# Altium schematic symbol library con-weidmueller-sl35.SCHLIB: 184 symbols
Pins are listed as number, name and electrical type; pins without a type are passive.

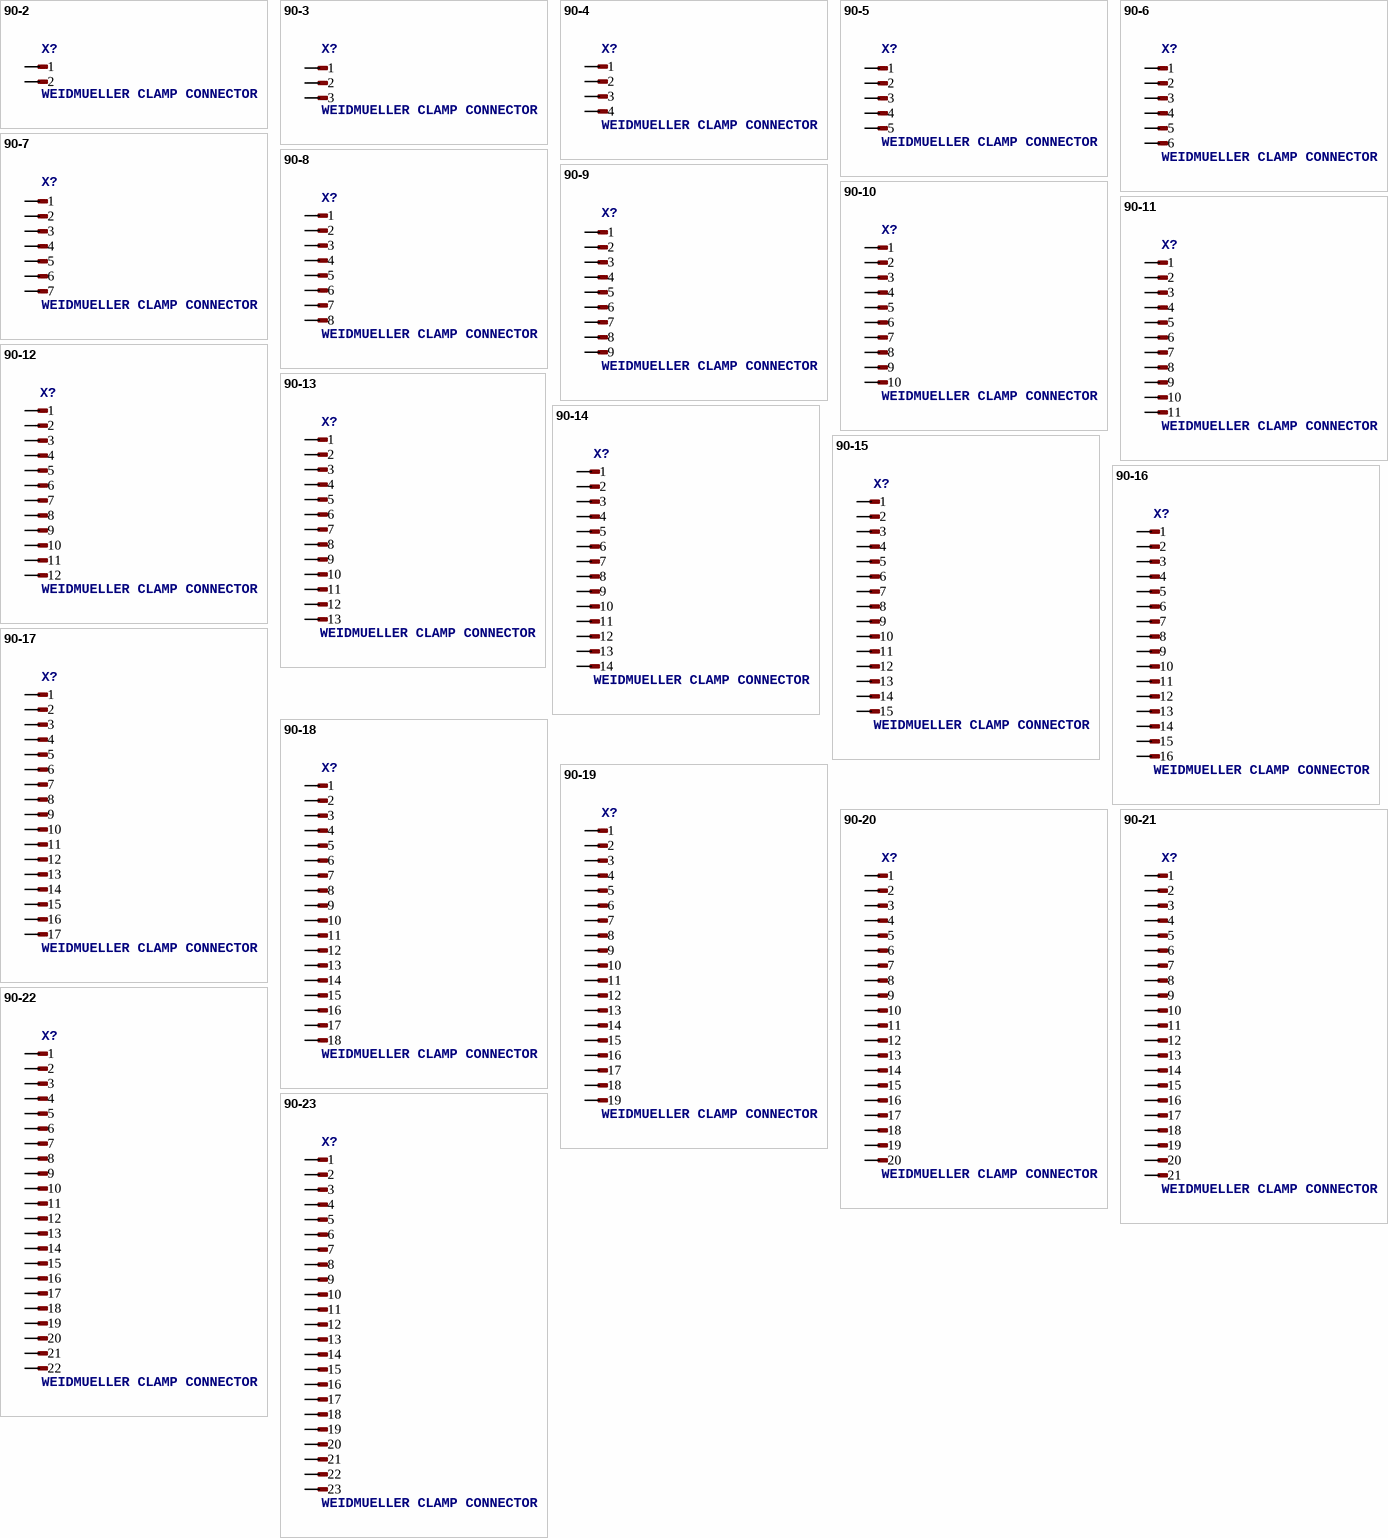
[diagram p0: symbols 90-2 to 90-23]

## 90-2
designator X?, comment WEIDMUELLER CLAMP CONNECTOR
OC_FARNELL: unknown; OC_NEWARK: unknown
footprint 90-2
pins: 1, 2

## 90-3
designator X?, comment WEIDMUELLER CLAMP CONNECTOR
OC_FARNELL: unknown; OC_NEWARK: unknown
footprint 90-3
pins: 1, 2, 3

## 90-4
designator X?, comment WEIDMUELLER CLAMP CONNECTOR
OC_FARNELL: unknown; OC_NEWARK: unknown
footprint 90-4
pins: 1, 2, 3, 4

## 90-5
designator X?, comment WEIDMUELLER CLAMP CONNECTOR
OC_FARNELL: unknown; OC_NEWARK: unknown
footprint 90-5
pins: 1, 2, 3, 4, 5

## 90-6
designator X?, comment WEIDMUELLER CLAMP CONNECTOR
OC_FARNELL: unknown; OC_NEWARK: unknown
footprint 90-6
pins: 1, 2, 3, 4, 5, 6

## 90-7
designator X?, comment WEIDMUELLER CLAMP CONNECTOR
OC_FARNELL: unknown; OC_NEWARK: unknown
footprint 90-7
pins: 1, 2, 3, 4, 5, 6, 7

## 90-8
designator X?, comment WEIDMUELLER CLAMP CONNECTOR
OC_FARNELL: unknown; OC_NEWARK: unknown
footprint 90-8
pins: 1, 2, 3, 4, 5, 6, 7, 8

## 90-9
designator X?, comment WEIDMUELLER CLAMP CONNECTOR
OC_FARNELL: unknown; OC_NEWARK: unknown
footprint 90-9
pins: 1, 2, 3, 4, 5, 6, 7, 8, 9

## 90-10
designator X?, comment WEIDMUELLER CLAMP CONNECTOR
OC_FARNELL: unknown; OC_NEWARK: unknown
footprint 90-10
pins: 1, 2, 3, 4, 5, 6, 7, 8, 9, 10

## 90-11
designator X?, comment WEIDMUELLER CLAMP CONNECTOR
OC_FARNELL: unknown; OC_NEWARK: unknown
footprint 90-11
pins: 1, 2, 3, 4, 5, 6, 7, 8, 9, 10, 11

## 90-12
designator X?, comment WEIDMUELLER CLAMP CONNECTOR
OC_FARNELL: unknown; OC_NEWARK: unknown
footprint 90-12
pins: 1, 2, 3, 4, 5, 6, 7, 8, 9, 10, 11, 12

## 90-13
designator X?, comment WEIDMUELLER CLAMP CONNECTOR
OC_FARNELL: unknown; OC_NEWARK: unknown
footprint 90-13
pins: 1, 2, 3, 4, 5, 6, 7, 8, 9, 10, 11, 12, 13

## 90-14
designator X?, comment WEIDMUELLER CLAMP CONNECTOR
OC_FARNELL: unknown; OC_NEWARK: unknown
footprint 90-14
pins: 1, 2, 3, 4, 5, 6, 7, 8, 9, 10, 11, 12, 13, 14

## 90-15
designator X?, comment WEIDMUELLER CLAMP CONNECTOR
OC_FARNELL: unknown; OC_NEWARK: unknown
footprint 90-15
pins: 1, 2, 3, 4, 5, 6, 7, 8, 9, 10, 11, 12, 13, 14, 15

## 90-16
designator X?, comment WEIDMUELLER CLAMP CONNECTOR
OC_FARNELL: unknown; OC_NEWARK: unknown
footprint 90-16
pins: 1, 2, 3, 4, 5, 6, 7, 8, 9, 10, 11, 12, 13, 14, 15, 16

## 90-17
designator X?, comment WEIDMUELLER CLAMP CONNECTOR
OC_FARNELL: unknown; OC_NEWARK: unknown
footprint 90-17
pins: 1, 2, 3, 4, 5, 6, 7, 8, 9, 10, 11, 12, 13, 14, 15, 16, 17

## 90-18
designator X?, comment WEIDMUELLER CLAMP CONNECTOR
OC_FARNELL: unknown; OC_NEWARK: unknown
footprint 90-18
pins: 1, 2, 3, 4, 5, 6, 7, 8, 9, 10, 11, 12, 13, 14, 15, 16, 17, 18

## 90-19
designator X?, comment WEIDMUELLER CLAMP CONNECTOR
OC_FARNELL: unknown; OC_NEWARK: unknown
footprint 90-19
pins: 1, 2, 3, 4, 5, 6, 7, 8, 9, 10, 11, 12, 13, 14, 15, 16, 17, 18, 19

## 90-20
designator X?, comment WEIDMUELLER CLAMP CONNECTOR
OC_FARNELL: unknown; OC_NEWARK: unknown
footprint 90-20
pins: 1, 2, 3, 4, 5, 6, 7, 8, 9, 10, 11, 12, 13, 14, 15, 16, 17, 18, 19, 20

## 90-21
designator X?, comment WEIDMUELLER CLAMP CONNECTOR
OC_FARNELL: unknown; OC_NEWARK: unknown
footprint 90-21
pins: 1, 2, 3, 4, 5, 6, 7, 8, 9, 10, 11, 12, 13, 14, 15, 16, 17, 18, 19, 20, 21

## 90-22
designator X?, comment WEIDMUELLER CLAMP CONNECTOR
OC_FARNELL: unknown; OC_NEWARK: unknown
footprint 90-22
pins: 1, 2, 3, 4, 5, 6, 7, 8, 9, 10, 11, 12, 13, 14, 15, 16, 17, 18, 19, 20, 21, 22

## 90-23
designator X?, comment WEIDMUELLER CLAMP CONNECTOR
OC_FARNELL: unknown; OC_NEWARK: unknown
footprint 90-23
pins: 1, 2, 3, 4, 5, 6, 7, 8, 9, 10, 11, 12, 13, 14, 15, 16, 17, 18, 19, 20, 21, 22, 23

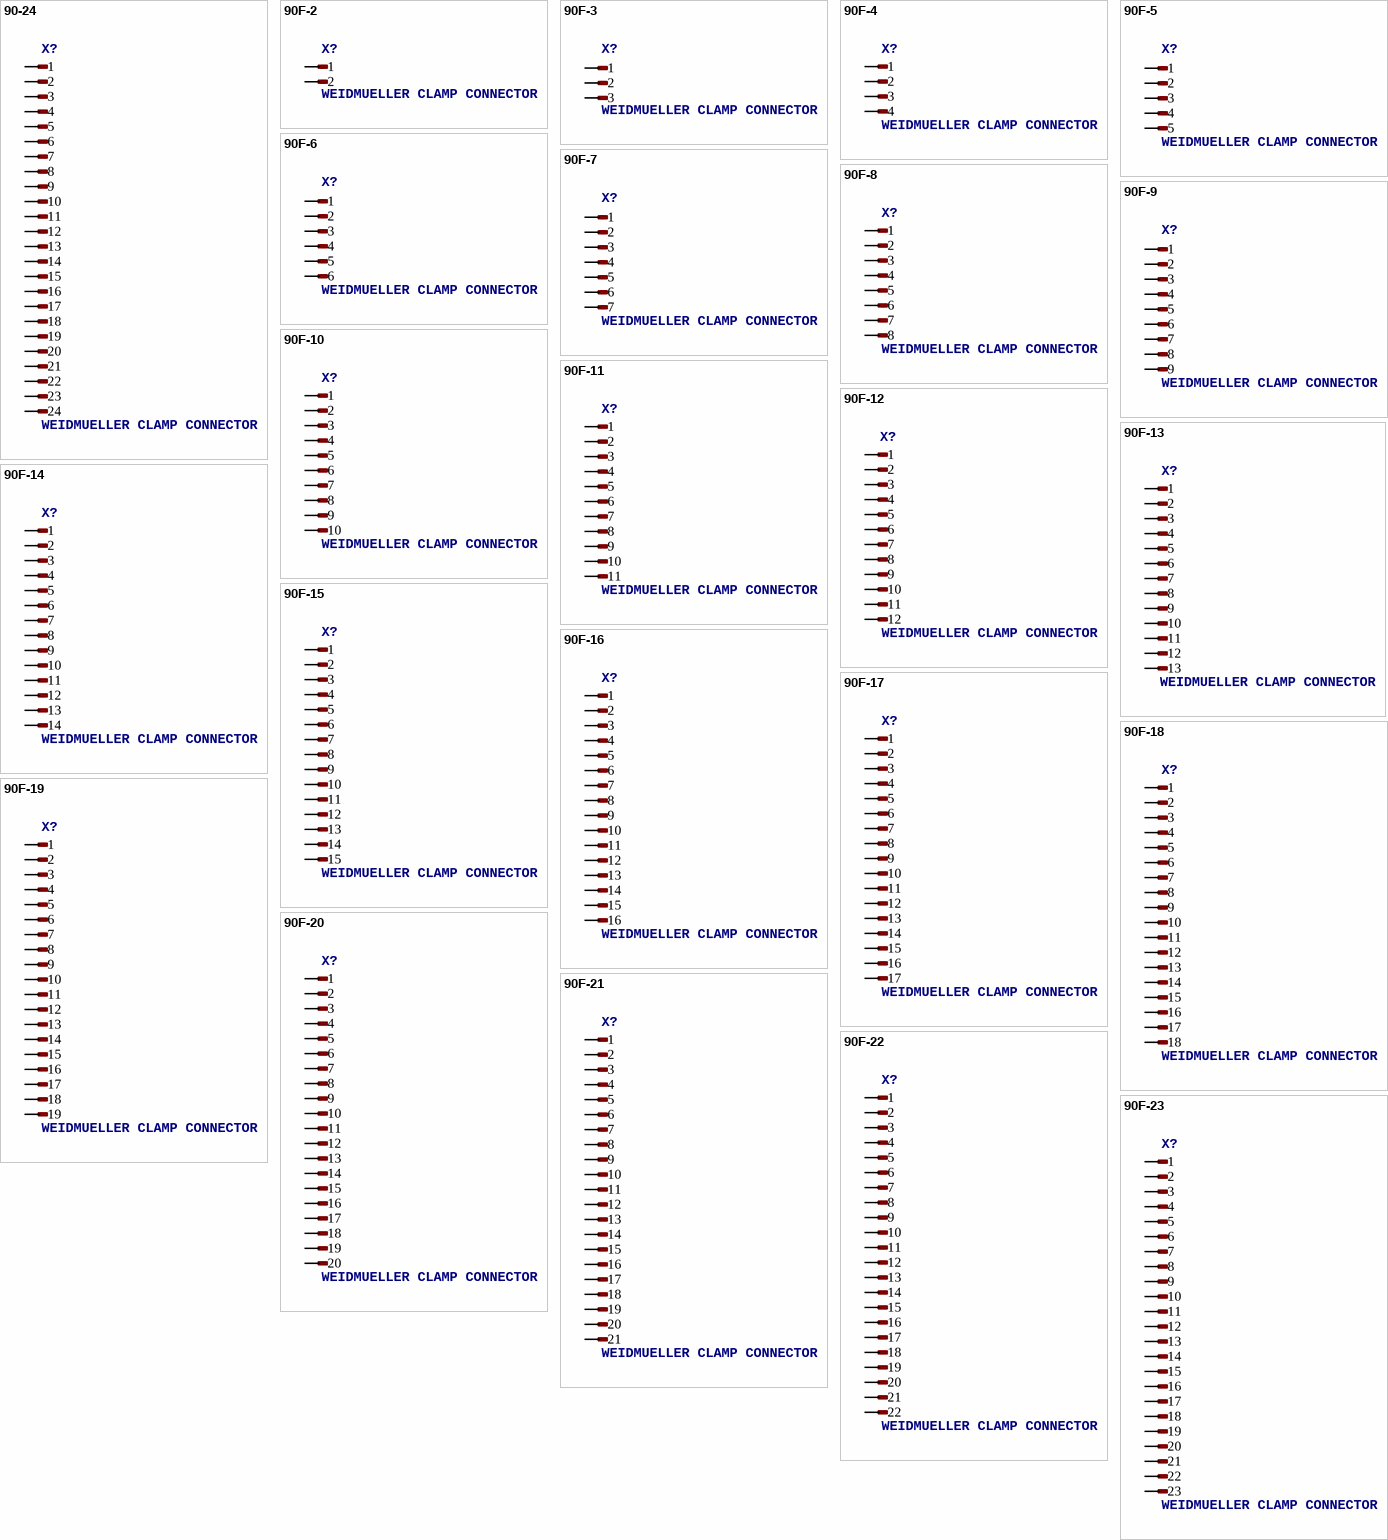
[diagram p1: symbols 90-24 to 90F-23]

## 90-24
designator X?, comment WEIDMUELLER CLAMP CONNECTOR
OC_FARNELL: unknown; OC_NEWARK: unknown
footprint 90-24
pins: 1, 2, 3, 4, 5, 6, 7, 8, 9, 10, 11, 12, 13, 14, 15, 16, 17, 18, 19, 20, 21, 22, 23, 24

## 90F-2
designator X?, comment WEIDMUELLER CLAMP CONNECTOR
OC_FARNELL: unknown; OC_NEWARK: unknown
footprint 90F-2
pins: 1, 2

## 90F-3
designator X?, comment WEIDMUELLER CLAMP CONNECTOR
OC_FARNELL: unknown; OC_NEWARK: unknown
footprint 90F-3
pins: 1, 2, 3

## 90F-4
designator X?, comment WEIDMUELLER CLAMP CONNECTOR
OC_FARNELL: unknown; OC_NEWARK: unknown
footprint 90F-4
pins: 1, 2, 3, 4

## 90F-5
designator X?, comment WEIDMUELLER CLAMP CONNECTOR
OC_FARNELL: unknown; OC_NEWARK: unknown
footprint 90F-5
pins: 1, 2, 3, 4, 5

## 90F-6
designator X?, comment WEIDMUELLER CLAMP CONNECTOR
OC_FARNELL: unknown; OC_NEWARK: unknown
footprint 90F-6
pins: 1, 2, 3, 4, 5, 6

## 90F-7
designator X?, comment WEIDMUELLER CLAMP CONNECTOR
OC_FARNELL: unknown; OC_NEWARK: unknown
footprint 90F-7
pins: 1, 2, 3, 4, 5, 6, 7

## 90F-8
designator X?, comment WEIDMUELLER CLAMP CONNECTOR
OC_FARNELL: unknown; OC_NEWARK: unknown
footprint 90F-8
pins: 1, 2, 3, 4, 5, 6, 7, 8

## 90F-9
designator X?, comment WEIDMUELLER CLAMP CONNECTOR
OC_FARNELL: unknown; OC_NEWARK: unknown
footprint 90F-9
pins: 1, 2, 3, 4, 5, 6, 7, 8, 9

## 90F-10
designator X?, comment WEIDMUELLER CLAMP CONNECTOR
OC_FARNELL: unknown; OC_NEWARK: unknown
footprint 90F-10
pins: 1, 2, 3, 4, 5, 6, 7, 8, 9, 10

## 90F-11
designator X?, comment WEIDMUELLER CLAMP CONNECTOR
OC_FARNELL: unknown; OC_NEWARK: unknown
footprint 90F-11
pins: 1, 2, 3, 4, 5, 6, 7, 8, 9, 10, 11

## 90F-12
designator X?, comment WEIDMUELLER CLAMP CONNECTOR
OC_FARNELL: unknown; OC_NEWARK: unknown
footprint 90F-12
pins: 1, 2, 3, 4, 5, 6, 7, 8, 9, 10, 11, 12

## 90F-13
designator X?, comment WEIDMUELLER CLAMP CONNECTOR
OC_FARNELL: unknown; OC_NEWARK: unknown
footprint 90F-13
pins: 1, 2, 3, 4, 5, 6, 7, 8, 9, 10, 11, 12, 13

## 90F-14
designator X?, comment WEIDMUELLER CLAMP CONNECTOR
OC_FARNELL: unknown; OC_NEWARK: unknown
footprint 90F-14
pins: 1, 2, 3, 4, 5, 6, 7, 8, 9, 10, 11, 12, 13, 14

## 90F-15
designator X?, comment WEIDMUELLER CLAMP CONNECTOR
OC_FARNELL: unknown; OC_NEWARK: unknown
footprint 90F-15
pins: 1, 2, 3, 4, 5, 6, 7, 8, 9, 10, 11, 12, 13, 14, 15

## 90F-16
designator X?, comment WEIDMUELLER CLAMP CONNECTOR
OC_FARNELL: unknown; OC_NEWARK: unknown
footprint 90F-16
pins: 1, 2, 3, 4, 5, 6, 7, 8, 9, 10, 11, 12, 13, 14, 15, 16

## 90F-17
designator X?, comment WEIDMUELLER CLAMP CONNECTOR
OC_FARNELL: unknown; OC_NEWARK: unknown
footprint 90F-17
pins: 1, 2, 3, 4, 5, 6, 7, 8, 9, 10, 11, 12, 13, 14, 15, 16, 17

## 90F-18
designator X?, comment WEIDMUELLER CLAMP CONNECTOR
OC_FARNELL: unknown; OC_NEWARK: unknown
footprint 90F-18
pins: 1, 2, 3, 4, 5, 6, 7, 8, 9, 10, 11, 12, 13, 14, 15, 16, 17, 18

## 90F-19
designator X?, comment WEIDMUELLER CLAMP CONNECTOR
OC_FARNELL: unknown; OC_NEWARK: unknown
footprint 90F-19
pins: 1, 2, 3, 4, 5, 6, 7, 8, 9, 10, 11, 12, 13, 14, 15, 16, 17, 18, 19

## 90F-20
designator X?, comment WEIDMUELLER CLAMP CONNECTOR
OC_FARNELL: unknown; OC_NEWARK: unknown
footprint 90F-20
pins: 1, 2, 3, 4, 5, 6, 7, 8, 9, 10, 11, 12, 13, 14, 15, 16, 17, 18, 19, 20

## 90F-21
designator X?, comment WEIDMUELLER CLAMP CONNECTOR
OC_FARNELL: unknown; OC_NEWARK: unknown
footprint 90F-21
pins: 1, 2, 3, 4, 5, 6, 7, 8, 9, 10, 11, 12, 13, 14, 15, 16, 17, 18, 19, 20, 21

## 90F-22
designator X?, comment WEIDMUELLER CLAMP CONNECTOR
OC_FARNELL: unknown; OC_NEWARK: unknown
footprint 90F-22
pins: 1, 2, 3, 4, 5, 6, 7, 8, 9, 10, 11, 12, 13, 14, 15, 16, 17, 18, 19, 20, 21, 22

## 90F-23
designator X?, comment WEIDMUELLER CLAMP CONNECTOR
OC_FARNELL: unknown; OC_NEWARK: unknown
footprint 90F-23
pins: 1, 2, 3, 4, 5, 6, 7, 8, 9, 10, 11, 12, 13, 14, 15, 16, 17, 18, 19, 20, 21, 22, 23

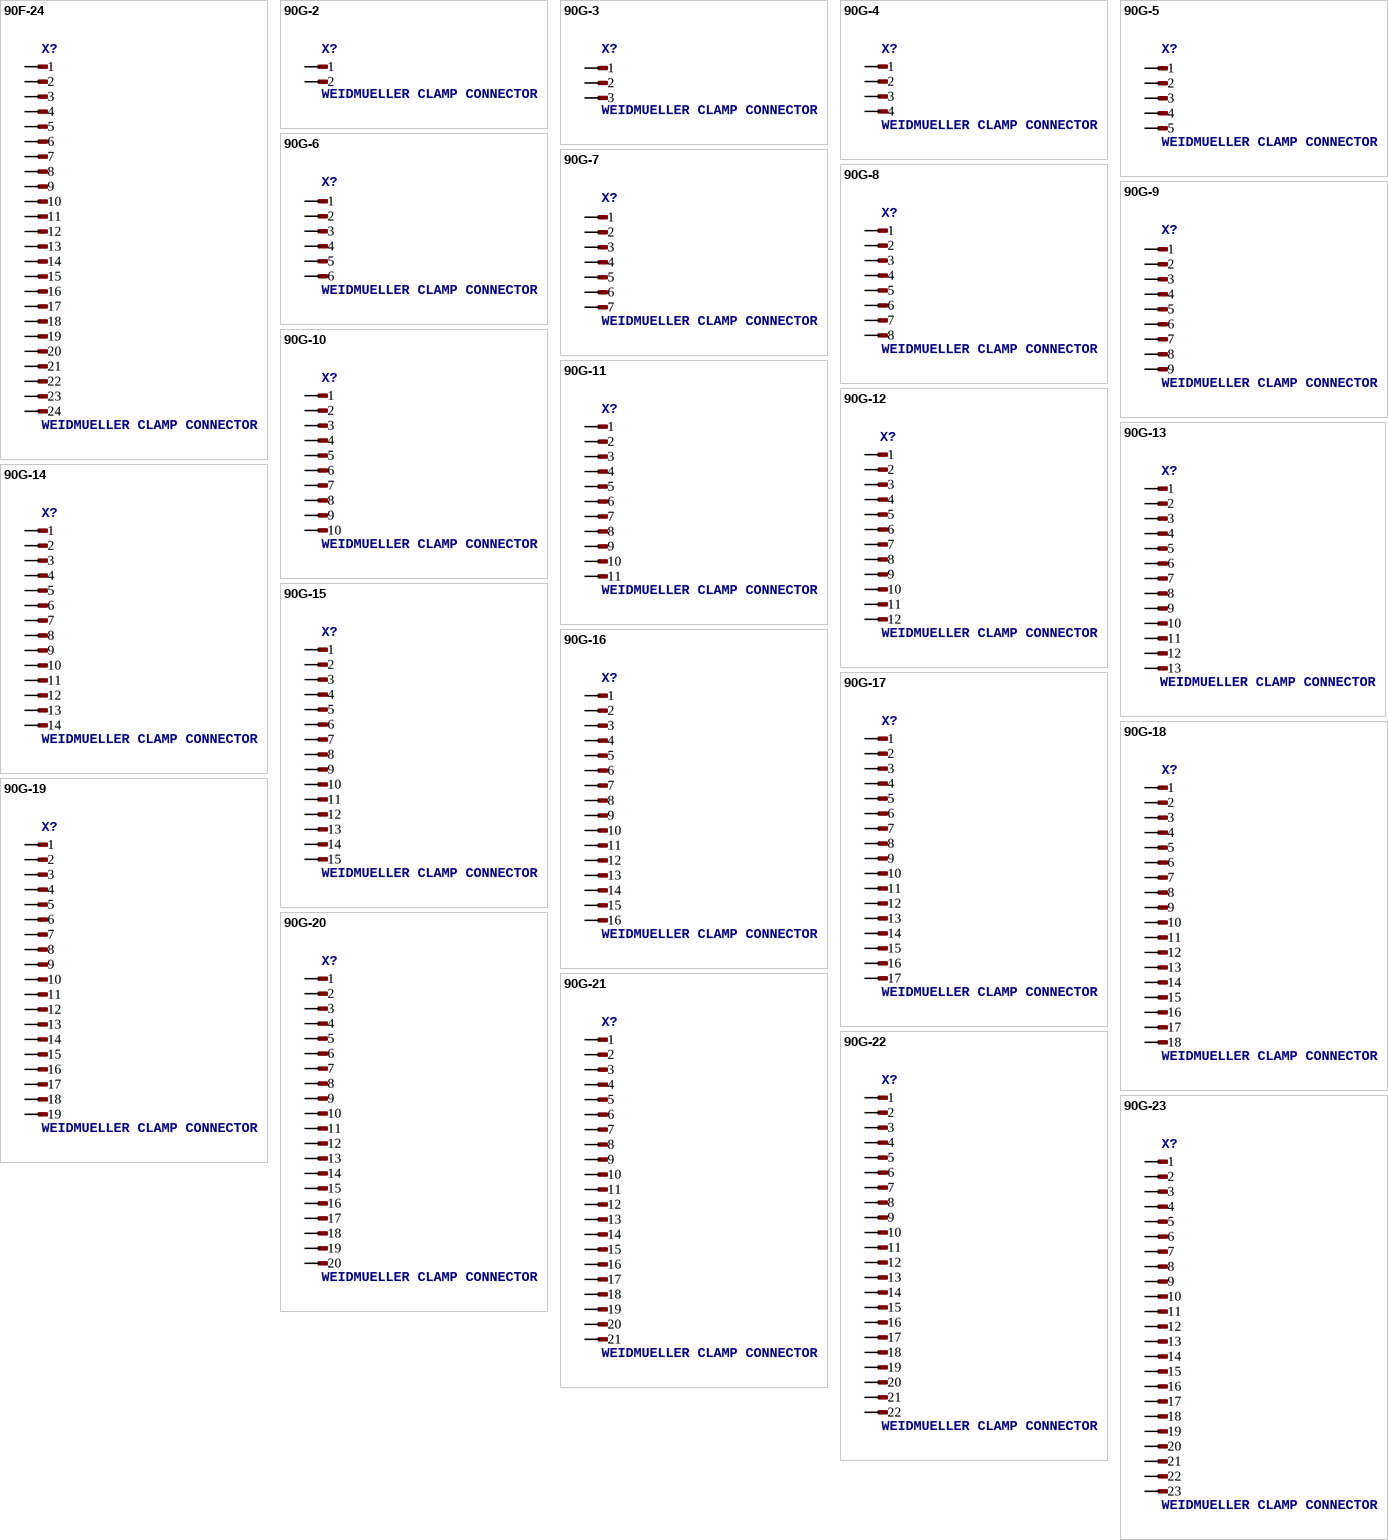
[diagram p2: symbols 90F-24 to 90G-23]

## 90F-24
designator X?, comment WEIDMUELLER CLAMP CONNECTOR
OC_FARNELL: unknown; OC_NEWARK: unknown
footprint 90F-24
pins: 1, 2, 3, 4, 5, 6, 7, 8, 9, 10, 11, 12, 13, 14, 15, 16, 17, 18, 19, 20, 21, 22, 23, 24

## 90G-2
designator X?, comment WEIDMUELLER CLAMP CONNECTOR
OC_FARNELL: unknown; OC_NEWARK: unknown
footprint 90G-2
pins: 1, 2

## 90G-3
designator X?, comment WEIDMUELLER CLAMP CONNECTOR
OC_FARNELL: unknown; OC_NEWARK: unknown
footprint 90G-3
pins: 1, 2, 3

## 90G-4
designator X?, comment WEIDMUELLER CLAMP CONNECTOR
OC_FARNELL: unknown; OC_NEWARK: unknown
footprint 90G-4
pins: 1, 2, 3, 4

## 90G-5
designator X?, comment WEIDMUELLER CLAMP CONNECTOR
OC_FARNELL: unknown; OC_NEWARK: unknown
footprint 90G-5
pins: 1, 2, 3, 4, 5

## 90G-6
designator X?, comment WEIDMUELLER CLAMP CONNECTOR
OC_FARNELL: unknown; OC_NEWARK: unknown
footprint 90G-6
pins: 1, 2, 3, 4, 5, 6

## 90G-7
designator X?, comment WEIDMUELLER CLAMP CONNECTOR
OC_FARNELL: unknown; OC_NEWARK: unknown
footprint 90G-7
pins: 1, 2, 3, 4, 5, 6, 7

## 90G-8
designator X?, comment WEIDMUELLER CLAMP CONNECTOR
OC_FARNELL: unknown; OC_NEWARK: unknown
footprint 90G-8
pins: 1, 2, 3, 4, 5, 6, 7, 8

## 90G-9
designator X?, comment WEIDMUELLER CLAMP CONNECTOR
OC_FARNELL: unknown; OC_NEWARK: unknown
footprint 90G-9
pins: 1, 2, 3, 4, 5, 6, 7, 8, 9

## 90G-10
designator X?, comment WEIDMUELLER CLAMP CONNECTOR
OC_FARNELL: unknown; OC_NEWARK: unknown
footprint 90G-10
pins: 1, 2, 3, 4, 5, 6, 7, 8, 9, 10

## 90G-11
designator X?, comment WEIDMUELLER CLAMP CONNECTOR
OC_FARNELL: unknown; OC_NEWARK: unknown
footprint 90G-11
pins: 1, 2, 3, 4, 5, 6, 7, 8, 9, 10, 11

## 90G-12
designator X?, comment WEIDMUELLER CLAMP CONNECTOR
OC_FARNELL: unknown; OC_NEWARK: unknown
footprint 90G-12
pins: 1, 2, 3, 4, 5, 6, 7, 8, 9, 10, 11, 12

## 90G-13
designator X?, comment WEIDMUELLER CLAMP CONNECTOR
OC_FARNELL: unknown; OC_NEWARK: unknown
footprint 90G-13
pins: 1, 2, 3, 4, 5, 6, 7, 8, 9, 10, 11, 12, 13

## 90G-14
designator X?, comment WEIDMUELLER CLAMP CONNECTOR
OC_FARNELL: unknown; OC_NEWARK: unknown
footprint 90G-14
pins: 1, 2, 3, 4, 5, 6, 7, 8, 9, 10, 11, 12, 13, 14

## 90G-15
designator X?, comment WEIDMUELLER CLAMP CONNECTOR
OC_FARNELL: unknown; OC_NEWARK: unknown
footprint 90G-15
pins: 1, 2, 3, 4, 5, 6, 7, 8, 9, 10, 11, 12, 13, 14, 15

## 90G-16
designator X?, comment WEIDMUELLER CLAMP CONNECTOR
OC_FARNELL: unknown; OC_NEWARK: unknown
footprint 90G-16
pins: 1, 2, 3, 4, 5, 6, 7, 8, 9, 10, 11, 12, 13, 14, 15, 16

## 90G-17
designator X?, comment WEIDMUELLER CLAMP CONNECTOR
OC_FARNELL: unknown; OC_NEWARK: unknown
footprint 90G-17
pins: 1, 2, 3, 4, 5, 6, 7, 8, 9, 10, 11, 12, 13, 14, 15, 16, 17

## 90G-18
designator X?, comment WEIDMUELLER CLAMP CONNECTOR
OC_FARNELL: unknown; OC_NEWARK: unknown
footprint 90G-18
pins: 1, 2, 3, 4, 5, 6, 7, 8, 9, 10, 11, 12, 13, 14, 15, 16, 17, 18

## 90G-19
designator X?, comment WEIDMUELLER CLAMP CONNECTOR
OC_FARNELL: unknown; OC_NEWARK: unknown
footprint 90G-19
pins: 1, 2, 3, 4, 5, 6, 7, 8, 9, 10, 11, 12, 13, 14, 15, 16, 17, 18, 19

## 90G-20
designator X?, comment WEIDMUELLER CLAMP CONNECTOR
OC_FARNELL: unknown; OC_NEWARK: unknown
footprint 90G-20
pins: 1, 2, 3, 4, 5, 6, 7, 8, 9, 10, 11, 12, 13, 14, 15, 16, 17, 18, 19, 20

## 90G-21
designator X?, comment WEIDMUELLER CLAMP CONNECTOR
OC_FARNELL: unknown; OC_NEWARK: unknown
footprint 90G-21
pins: 1, 2, 3, 4, 5, 6, 7, 8, 9, 10, 11, 12, 13, 14, 15, 16, 17, 18, 19, 20, 21

## 90G-22
designator X?, comment WEIDMUELLER CLAMP CONNECTOR
OC_FARNELL: unknown; OC_NEWARK: unknown
footprint 90G-22
pins: 1, 2, 3, 4, 5, 6, 7, 8, 9, 10, 11, 12, 13, 14, 15, 16, 17, 18, 19, 20, 21, 22

## 90G-23
designator X?, comment WEIDMUELLER CLAMP CONNECTOR
OC_FARNELL: unknown; OC_NEWARK: unknown
footprint 90G-23
pins: 1, 2, 3, 4, 5, 6, 7, 8, 9, 10, 11, 12, 13, 14, 15, 16, 17, 18, 19, 20, 21, 22, 23

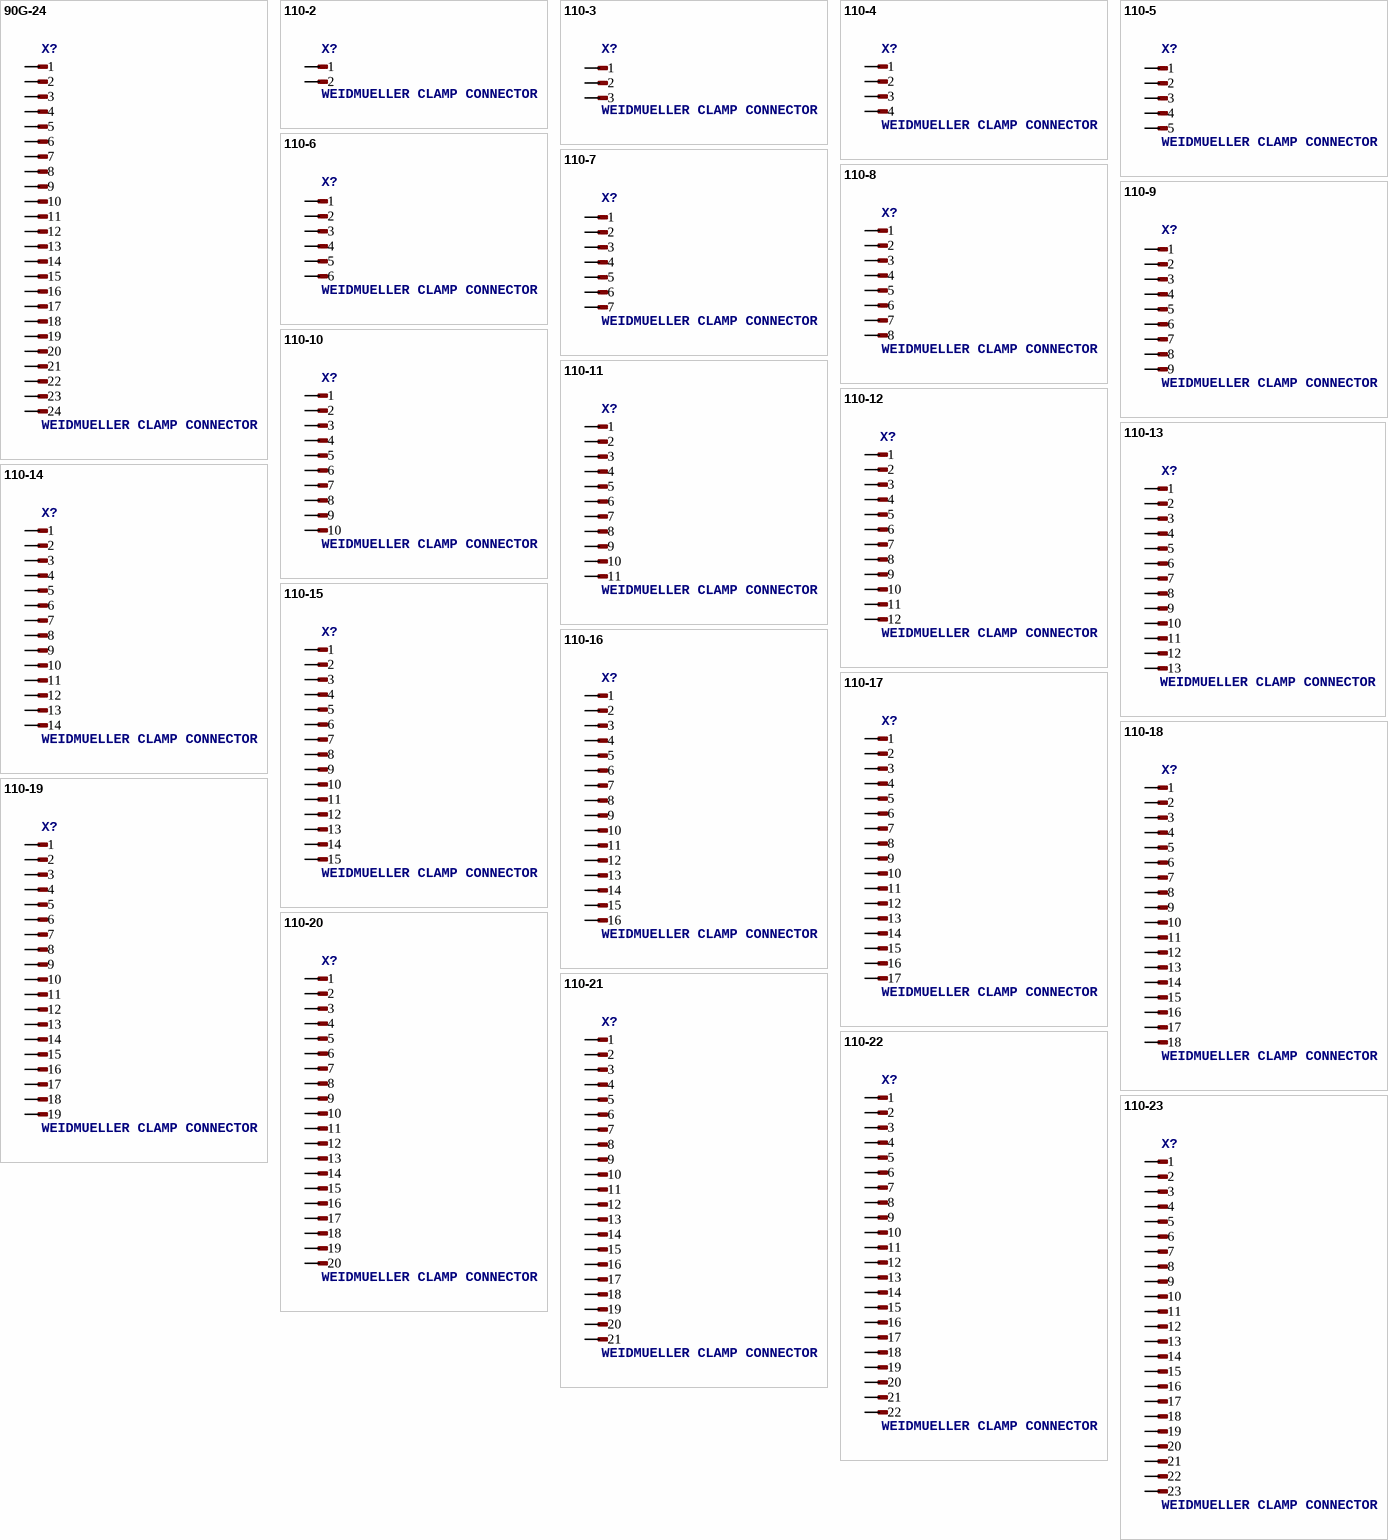
[diagram p3: symbols 90G-24 to 110-23]

## 90G-24
designator X?, comment WEIDMUELLER CLAMP CONNECTOR
OC_FARNELL: unknown; OC_NEWARK: unknown
footprint 90G-24
pins: 1, 2, 3, 4, 5, 6, 7, 8, 9, 10, 11, 12, 13, 14, 15, 16, 17, 18, 19, 20, 21, 22, 23, 24

## 110-2
designator X?, comment WEIDMUELLER CLAMP CONNECTOR
OC_FARNELL: unknown; OC_NEWARK: unknown
footprint 110-2
pins: 1, 2

## 110-3
designator X?, comment WEIDMUELLER CLAMP CONNECTOR
OC_FARNELL: unknown; OC_NEWARK: unknown
footprint 110-3
pins: 1, 2, 3

## 110-4
designator X?, comment WEIDMUELLER CLAMP CONNECTOR
OC_FARNELL: unknown; OC_NEWARK: unknown
footprint 110-4
pins: 1, 2, 3, 4

## 110-5
designator X?, comment WEIDMUELLER CLAMP CONNECTOR
OC_FARNELL: unknown; OC_NEWARK: unknown
footprint 110-5
pins: 1, 2, 3, 4, 5

## 110-6
designator X?, comment WEIDMUELLER CLAMP CONNECTOR
OC_FARNELL: unknown; OC_NEWARK: unknown
footprint 110-6
pins: 1, 2, 3, 4, 5, 6

## 110-7
designator X?, comment WEIDMUELLER CLAMP CONNECTOR
OC_FARNELL: unknown; OC_NEWARK: unknown
footprint 110-7
pins: 1, 2, 3, 4, 5, 6, 7

## 110-8
designator X?, comment WEIDMUELLER CLAMP CONNECTOR
OC_FARNELL: unknown; OC_NEWARK: unknown
footprint 110-8
pins: 1, 2, 3, 4, 5, 6, 7, 8

## 110-9
designator X?, comment WEIDMUELLER CLAMP CONNECTOR
OC_FARNELL: unknown; OC_NEWARK: unknown
footprint 110-9
pins: 1, 2, 3, 4, 5, 6, 7, 8, 9

## 110-10
designator X?, comment WEIDMUELLER CLAMP CONNECTOR
OC_FARNELL: unknown; OC_NEWARK: unknown
footprint 110-10
pins: 1, 2, 3, 4, 5, 6, 7, 8, 9, 10

## 110-11
designator X?, comment WEIDMUELLER CLAMP CONNECTOR
OC_FARNELL: unknown; OC_NEWARK: unknown
footprint 110-11
pins: 1, 2, 3, 4, 5, 6, 7, 8, 9, 10, 11

## 110-12
designator X?, comment WEIDMUELLER CLAMP CONNECTOR
OC_FARNELL: unknown; OC_NEWARK: unknown
footprint 110-12
pins: 1, 2, 3, 4, 5, 6, 7, 8, 9, 10, 11, 12

## 110-13
designator X?, comment WEIDMUELLER CLAMP CONNECTOR
OC_FARNELL: unknown; OC_NEWARK: unknown
footprint 110-13
pins: 1, 2, 3, 4, 5, 6, 7, 8, 9, 10, 11, 12, 13

## 110-14
designator X?, comment WEIDMUELLER CLAMP CONNECTOR
OC_FARNELL: unknown; OC_NEWARK: unknown
footprint 110-14
pins: 1, 2, 3, 4, 5, 6, 7, 8, 9, 10, 11, 12, 13, 14

## 110-15
designator X?, comment WEIDMUELLER CLAMP CONNECTOR
OC_FARNELL: unknown; OC_NEWARK: unknown
footprint 110-15
pins: 1, 2, 3, 4, 5, 6, 7, 8, 9, 10, 11, 12, 13, 14, 15

## 110-16
designator X?, comment WEIDMUELLER CLAMP CONNECTOR
OC_FARNELL: unknown; OC_NEWARK: unknown
footprint 110-16
pins: 1, 2, 3, 4, 5, 6, 7, 8, 9, 10, 11, 12, 13, 14, 15, 16

## 110-17
designator X?, comment WEIDMUELLER CLAMP CONNECTOR
OC_FARNELL: unknown; OC_NEWARK: unknown
footprint 110-17
pins: 1, 2, 3, 4, 5, 6, 7, 8, 9, 10, 11, 12, 13, 14, 15, 16, 17

## 110-18
designator X?, comment WEIDMUELLER CLAMP CONNECTOR
OC_FARNELL: unknown; OC_NEWARK: unknown
footprint 110-18
pins: 1, 2, 3, 4, 5, 6, 7, 8, 9, 10, 11, 12, 13, 14, 15, 16, 17, 18

## 110-19
designator X?, comment WEIDMUELLER CLAMP CONNECTOR
OC_FARNELL: unknown; OC_NEWARK: unknown
footprint 110-19
pins: 1, 2, 3, 4, 5, 6, 7, 8, 9, 10, 11, 12, 13, 14, 15, 16, 17, 18, 19

## 110-20
designator X?, comment WEIDMUELLER CLAMP CONNECTOR
OC_FARNELL: unknown; OC_NEWARK: unknown
footprint 110-20
pins: 1, 2, 3, 4, 5, 6, 7, 8, 9, 10, 11, 12, 13, 14, 15, 16, 17, 18, 19, 20

## 110-21
designator X?, comment WEIDMUELLER CLAMP CONNECTOR
OC_FARNELL: unknown; OC_NEWARK: unknown
footprint 110-21
pins: 1, 2, 3, 4, 5, 6, 7, 8, 9, 10, 11, 12, 13, 14, 15, 16, 17, 18, 19, 20, 21

## 110-22
designator X?, comment WEIDMUELLER CLAMP CONNECTOR
OC_FARNELL: unknown; OC_NEWARK: unknown
footprint 110-22
pins: 1, 2, 3, 4, 5, 6, 7, 8, 9, 10, 11, 12, 13, 14, 15, 16, 17, 18, 19, 20, 21, 22

## 110-23
designator X?, comment WEIDMUELLER CLAMP CONNECTOR
OC_FARNELL: unknown; OC_NEWARK: unknown
footprint 110-23
pins: 1, 2, 3, 4, 5, 6, 7, 8, 9, 10, 11, 12, 13, 14, 15, 16, 17, 18, 19, 20, 21, 22, 23

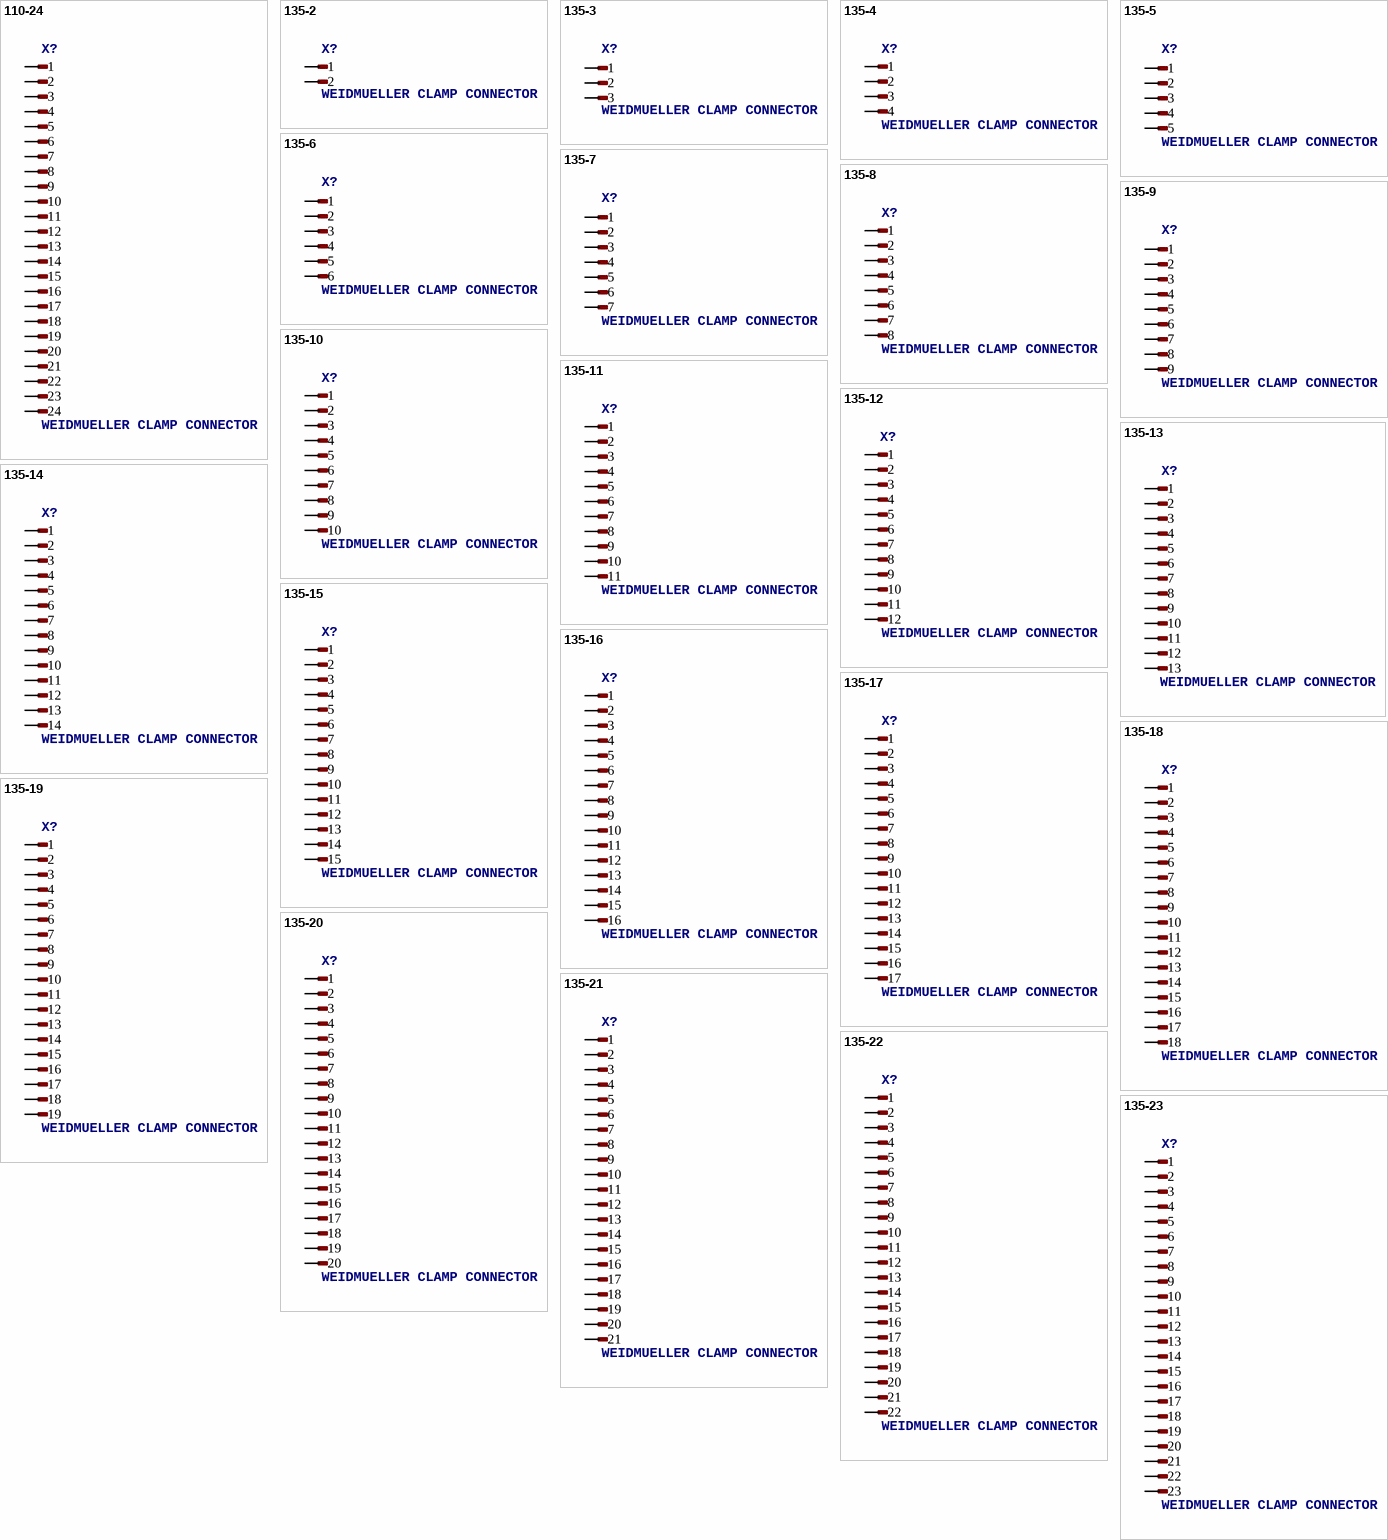
[diagram p4: symbols 110-24 to 135-23]

## 110-24
designator X?, comment WEIDMUELLER CLAMP CONNECTOR
OC_FARNELL: unknown; OC_NEWARK: unknown
footprint 110-24
pins: 1, 2, 3, 4, 5, 6, 7, 8, 9, 10, 11, 12, 13, 14, 15, 16, 17, 18, 19, 20, 21, 22, 23, 24

## 135-2
designator X?, comment WEIDMUELLER CLAMP CONNECTOR
OC_FARNELL: unknown; OC_NEWARK: unknown
footprint 135-2
pins: 1, 2

## 135-3
designator X?, comment WEIDMUELLER CLAMP CONNECTOR
OC_FARNELL: unknown; OC_NEWARK: unknown
footprint 135-3
pins: 1, 2, 3

## 135-4
designator X?, comment WEIDMUELLER CLAMP CONNECTOR
OC_FARNELL: unknown; OC_NEWARK: unknown
footprint 135-4
pins: 1, 2, 3, 4

## 135-5
designator X?, comment WEIDMUELLER CLAMP CONNECTOR
OC_FARNELL: unknown; OC_NEWARK: unknown
footprint 135-5
pins: 1, 2, 3, 4, 5

## 135-6
designator X?, comment WEIDMUELLER CLAMP CONNECTOR
OC_FARNELL: unknown; OC_NEWARK: unknown
footprint 135-6
pins: 1, 2, 3, 4, 5, 6

## 135-7
designator X?, comment WEIDMUELLER CLAMP CONNECTOR
OC_FARNELL: unknown; OC_NEWARK: unknown
footprint 135-7
pins: 1, 2, 3, 4, 5, 6, 7

## 135-8
designator X?, comment WEIDMUELLER CLAMP CONNECTOR
OC_FARNELL: unknown; OC_NEWARK: unknown
footprint 135-8
pins: 1, 2, 3, 4, 5, 6, 7, 8

## 135-9
designator X?, comment WEIDMUELLER CLAMP CONNECTOR
OC_FARNELL: unknown; OC_NEWARK: unknown
footprint 135-9
pins: 1, 2, 3, 4, 5, 6, 7, 8, 9

## 135-10
designator X?, comment WEIDMUELLER CLAMP CONNECTOR
OC_FARNELL: unknown; OC_NEWARK: unknown
footprint 135-10
pins: 1, 2, 3, 4, 5, 6, 7, 8, 9, 10

## 135-11
designator X?, comment WEIDMUELLER CLAMP CONNECTOR
OC_FARNELL: unknown; OC_NEWARK: unknown
footprint 135-11
pins: 1, 2, 3, 4, 5, 6, 7, 8, 9, 10, 11

## 135-12
designator X?, comment WEIDMUELLER CLAMP CONNECTOR
OC_FARNELL: unknown; OC_NEWARK: unknown
footprint 135-12
pins: 1, 2, 3, 4, 5, 6, 7, 8, 9, 10, 11, 12

## 135-13
designator X?, comment WEIDMUELLER CLAMP CONNECTOR
OC_FARNELL: unknown; OC_NEWARK: unknown
footprint 135-13
pins: 1, 2, 3, 4, 5, 6, 7, 8, 9, 10, 11, 12, 13

## 135-14
designator X?, comment WEIDMUELLER CLAMP CONNECTOR
OC_FARNELL: unknown; OC_NEWARK: unknown
footprint 135-14
pins: 1, 2, 3, 4, 5, 6, 7, 8, 9, 10, 11, 12, 13, 14

## 135-15
designator X?, comment WEIDMUELLER CLAMP CONNECTOR
OC_FARNELL: unknown; OC_NEWARK: unknown
footprint 135-15
pins: 1, 2, 3, 4, 5, 6, 7, 8, 9, 10, 11, 12, 13, 14, 15

## 135-16
designator X?, comment WEIDMUELLER CLAMP CONNECTOR
OC_FARNELL: unknown; OC_NEWARK: unknown
footprint 135-16
pins: 1, 2, 3, 4, 5, 6, 7, 8, 9, 10, 11, 12, 13, 14, 15, 16

## 135-17
designator X?, comment WEIDMUELLER CLAMP CONNECTOR
OC_FARNELL: unknown; OC_NEWARK: unknown
footprint 135-17
pins: 1, 2, 3, 4, 5, 6, 7, 8, 9, 10, 11, 12, 13, 14, 15, 16, 17

## 135-18
designator X?, comment WEIDMUELLER CLAMP CONNECTOR
OC_FARNELL: unknown; OC_NEWARK: unknown
footprint 135-18
pins: 1, 2, 3, 4, 5, 6, 7, 8, 9, 10, 11, 12, 13, 14, 15, 16, 17, 18

## 135-19
designator X?, comment WEIDMUELLER CLAMP CONNECTOR
OC_FARNELL: unknown; OC_NEWARK: unknown
footprint 135-19
pins: 1, 2, 3, 4, 5, 6, 7, 8, 9, 10, 11, 12, 13, 14, 15, 16, 17, 18, 19

## 135-20
designator X?, comment WEIDMUELLER CLAMP CONNECTOR
OC_FARNELL: unknown; OC_NEWARK: unknown
footprint 135-20
pins: 1, 2, 3, 4, 5, 6, 7, 8, 9, 10, 11, 12, 13, 14, 15, 16, 17, 18, 19, 20

## 135-21
designator X?, comment WEIDMUELLER CLAMP CONNECTOR
OC_FARNELL: unknown; OC_NEWARK: unknown
footprint 135-21
pins: 1, 2, 3, 4, 5, 6, 7, 8, 9, 10, 11, 12, 13, 14, 15, 16, 17, 18, 19, 20, 21

## 135-22
designator X?, comment WEIDMUELLER CLAMP CONNECTOR
OC_FARNELL: unknown; OC_NEWARK: unknown
footprint 135-22
pins: 1, 2, 3, 4, 5, 6, 7, 8, 9, 10, 11, 12, 13, 14, 15, 16, 17, 18, 19, 20, 21, 22

## 135-23
designator X?, comment WEIDMUELLER CLAMP CONNECTOR
OC_FARNELL: unknown; OC_NEWARK: unknown
footprint 135-23
pins: 1, 2, 3, 4, 5, 6, 7, 8, 9, 10, 11, 12, 13, 14, 15, 16, 17, 18, 19, 20, 21, 22, 23

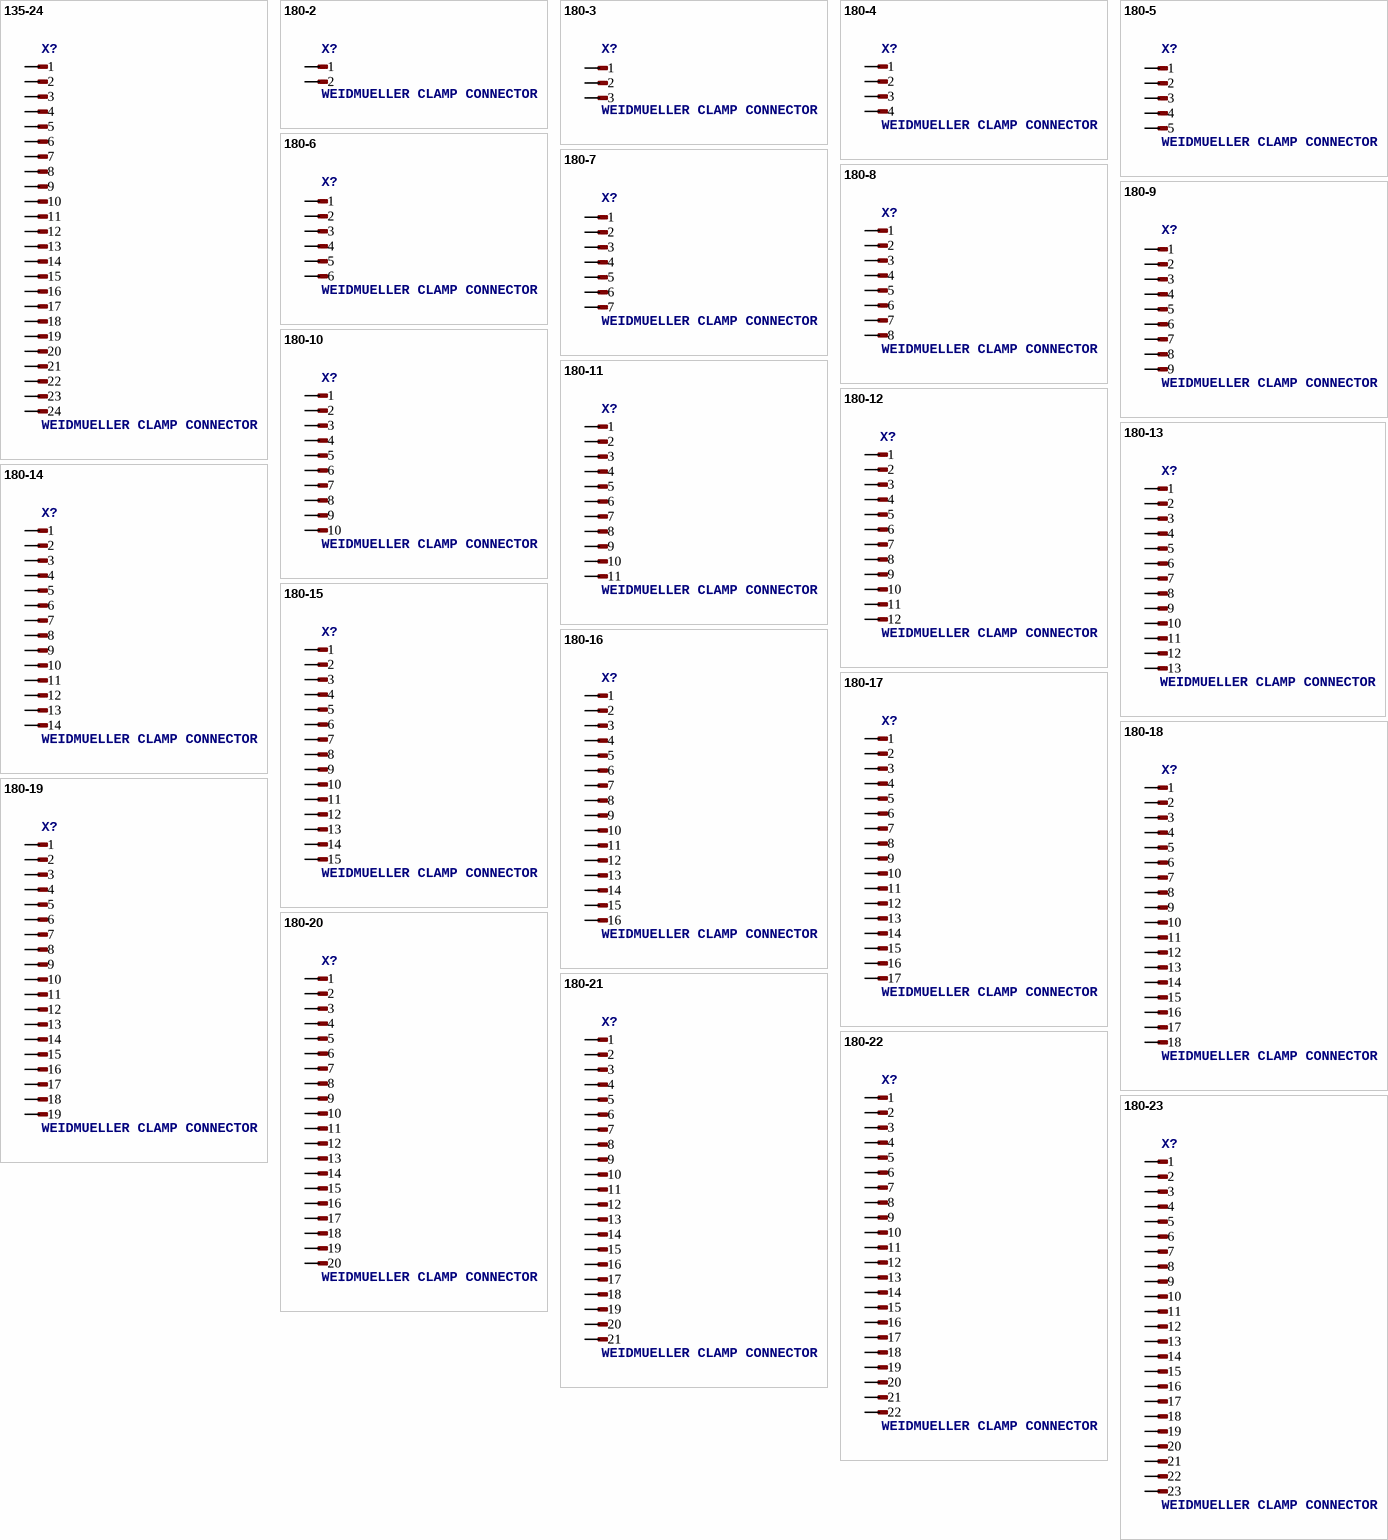
[diagram p5: symbols 135-24 to 180-23]

## 135-24
designator X?, comment WEIDMUELLER CLAMP CONNECTOR
OC_FARNELL: unknown; OC_NEWARK: unknown
footprint 135-24
pins: 1, 2, 3, 4, 5, 6, 7, 8, 9, 10, 11, 12, 13, 14, 15, 16, 17, 18, 19, 20, 21, 22, 23, 24

## 180-2
designator X?, comment WEIDMUELLER CLAMP CONNECTOR
OC_FARNELL: unknown; OC_NEWARK: unknown
footprint 180-2
pins: 1, 2

## 180-3
designator X?, comment WEIDMUELLER CLAMP CONNECTOR
OC_FARNELL: unknown; OC_NEWARK: unknown
footprint 180-3
pins: 1, 2, 3

## 180-4
designator X?, comment WEIDMUELLER CLAMP CONNECTOR
OC_FARNELL: unknown; OC_NEWARK: unknown
footprint 180-4
pins: 1, 2, 3, 4

## 180-5
designator X?, comment WEIDMUELLER CLAMP CONNECTOR
OC_FARNELL: unknown; OC_NEWARK: unknown
footprint 180-5
pins: 1, 2, 3, 4, 5

## 180-6
designator X?, comment WEIDMUELLER CLAMP CONNECTOR
OC_FARNELL: unknown; OC_NEWARK: unknown
footprint 180-6
pins: 1, 2, 3, 4, 5, 6

## 180-7
designator X?, comment WEIDMUELLER CLAMP CONNECTOR
OC_FARNELL: unknown; OC_NEWARK: unknown
footprint 180-7
pins: 1, 2, 3, 4, 5, 6, 7

## 180-8
designator X?, comment WEIDMUELLER CLAMP CONNECTOR
OC_FARNELL: unknown; OC_NEWARK: unknown
footprint 180-8
pins: 1, 2, 3, 4, 5, 6, 7, 8

## 180-9
designator X?, comment WEIDMUELLER CLAMP CONNECTOR
OC_FARNELL: unknown; OC_NEWARK: unknown
footprint 180-9
pins: 1, 2, 3, 4, 5, 6, 7, 8, 9

## 180-10
designator X?, comment WEIDMUELLER CLAMP CONNECTOR
OC_FARNELL: unknown; OC_NEWARK: unknown
footprint 180-10
pins: 1, 2, 3, 4, 5, 6, 7, 8, 9, 10

## 180-11
designator X?, comment WEIDMUELLER CLAMP CONNECTOR
OC_FARNELL: unknown; OC_NEWARK: unknown
footprint 180-11
pins: 1, 2, 3, 4, 5, 6, 7, 8, 9, 10, 11

## 180-12
designator X?, comment WEIDMUELLER CLAMP CONNECTOR
OC_FARNELL: unknown; OC_NEWARK: unknown
footprint 180-12
pins: 1, 2, 3, 4, 5, 6, 7, 8, 9, 10, 11, 12

## 180-13
designator X?, comment WEIDMUELLER CLAMP CONNECTOR
OC_FARNELL: unknown; OC_NEWARK: unknown
footprint 180-13
pins: 1, 2, 3, 4, 5, 6, 7, 8, 9, 10, 11, 12, 13

## 180-14
designator X?, comment WEIDMUELLER CLAMP CONNECTOR
OC_FARNELL: unknown; OC_NEWARK: unknown
footprint 180-14
pins: 1, 2, 3, 4, 5, 6, 7, 8, 9, 10, 11, 12, 13, 14

## 180-15
designator X?, comment WEIDMUELLER CLAMP CONNECTOR
OC_FARNELL: unknown; OC_NEWARK: unknown
footprint 180-15
pins: 1, 2, 3, 4, 5, 6, 7, 8, 9, 10, 11, 12, 13, 14, 15

## 180-16
designator X?, comment WEIDMUELLER CLAMP CONNECTOR
OC_FARNELL: unknown; OC_NEWARK: unknown
footprint 180-16
pins: 1, 2, 3, 4, 5, 6, 7, 8, 9, 10, 11, 12, 13, 14, 15, 16

## 180-17
designator X?, comment WEIDMUELLER CLAMP CONNECTOR
OC_FARNELL: unknown; OC_NEWARK: unknown
footprint 180-17
pins: 1, 2, 3, 4, 5, 6, 7, 8, 9, 10, 11, 12, 13, 14, 15, 16, 17

## 180-18
designator X?, comment WEIDMUELLER CLAMP CONNECTOR
OC_FARNELL: unknown; OC_NEWARK: unknown
footprint 180-18
pins: 1, 2, 3, 4, 5, 6, 7, 8, 9, 10, 11, 12, 13, 14, 15, 16, 17, 18

## 180-19
designator X?, comment WEIDMUELLER CLAMP CONNECTOR
OC_FARNELL: unknown; OC_NEWARK: unknown
footprint 180-19
pins: 1, 2, 3, 4, 5, 6, 7, 8, 9, 10, 11, 12, 13, 14, 15, 16, 17, 18, 19

## 180-20
designator X?, comment WEIDMUELLER CLAMP CONNECTOR
OC_FARNELL: unknown; OC_NEWARK: unknown
footprint 180-20
pins: 1, 2, 3, 4, 5, 6, 7, 8, 9, 10, 11, 12, 13, 14, 15, 16, 17, 18, 19, 20

## 180-21
designator X?, comment WEIDMUELLER CLAMP CONNECTOR
OC_FARNELL: unknown; OC_NEWARK: unknown
footprint 180-21
pins: 1, 2, 3, 4, 5, 6, 7, 8, 9, 10, 11, 12, 13, 14, 15, 16, 17, 18, 19, 20, 21

## 180-22
designator X?, comment WEIDMUELLER CLAMP CONNECTOR
OC_FARNELL: unknown; OC_NEWARK: unknown
footprint 180-22
pins: 1, 2, 3, 4, 5, 6, 7, 8, 9, 10, 11, 12, 13, 14, 15, 16, 17, 18, 19, 20, 21, 22

## 180-23
designator X?, comment WEIDMUELLER CLAMP CONNECTOR
OC_FARNELL: unknown; OC_NEWARK: unknown
footprint 180-23
pins: 1, 2, 3, 4, 5, 6, 7, 8, 9, 10, 11, 12, 13, 14, 15, 16, 17, 18, 19, 20, 21, 22, 23

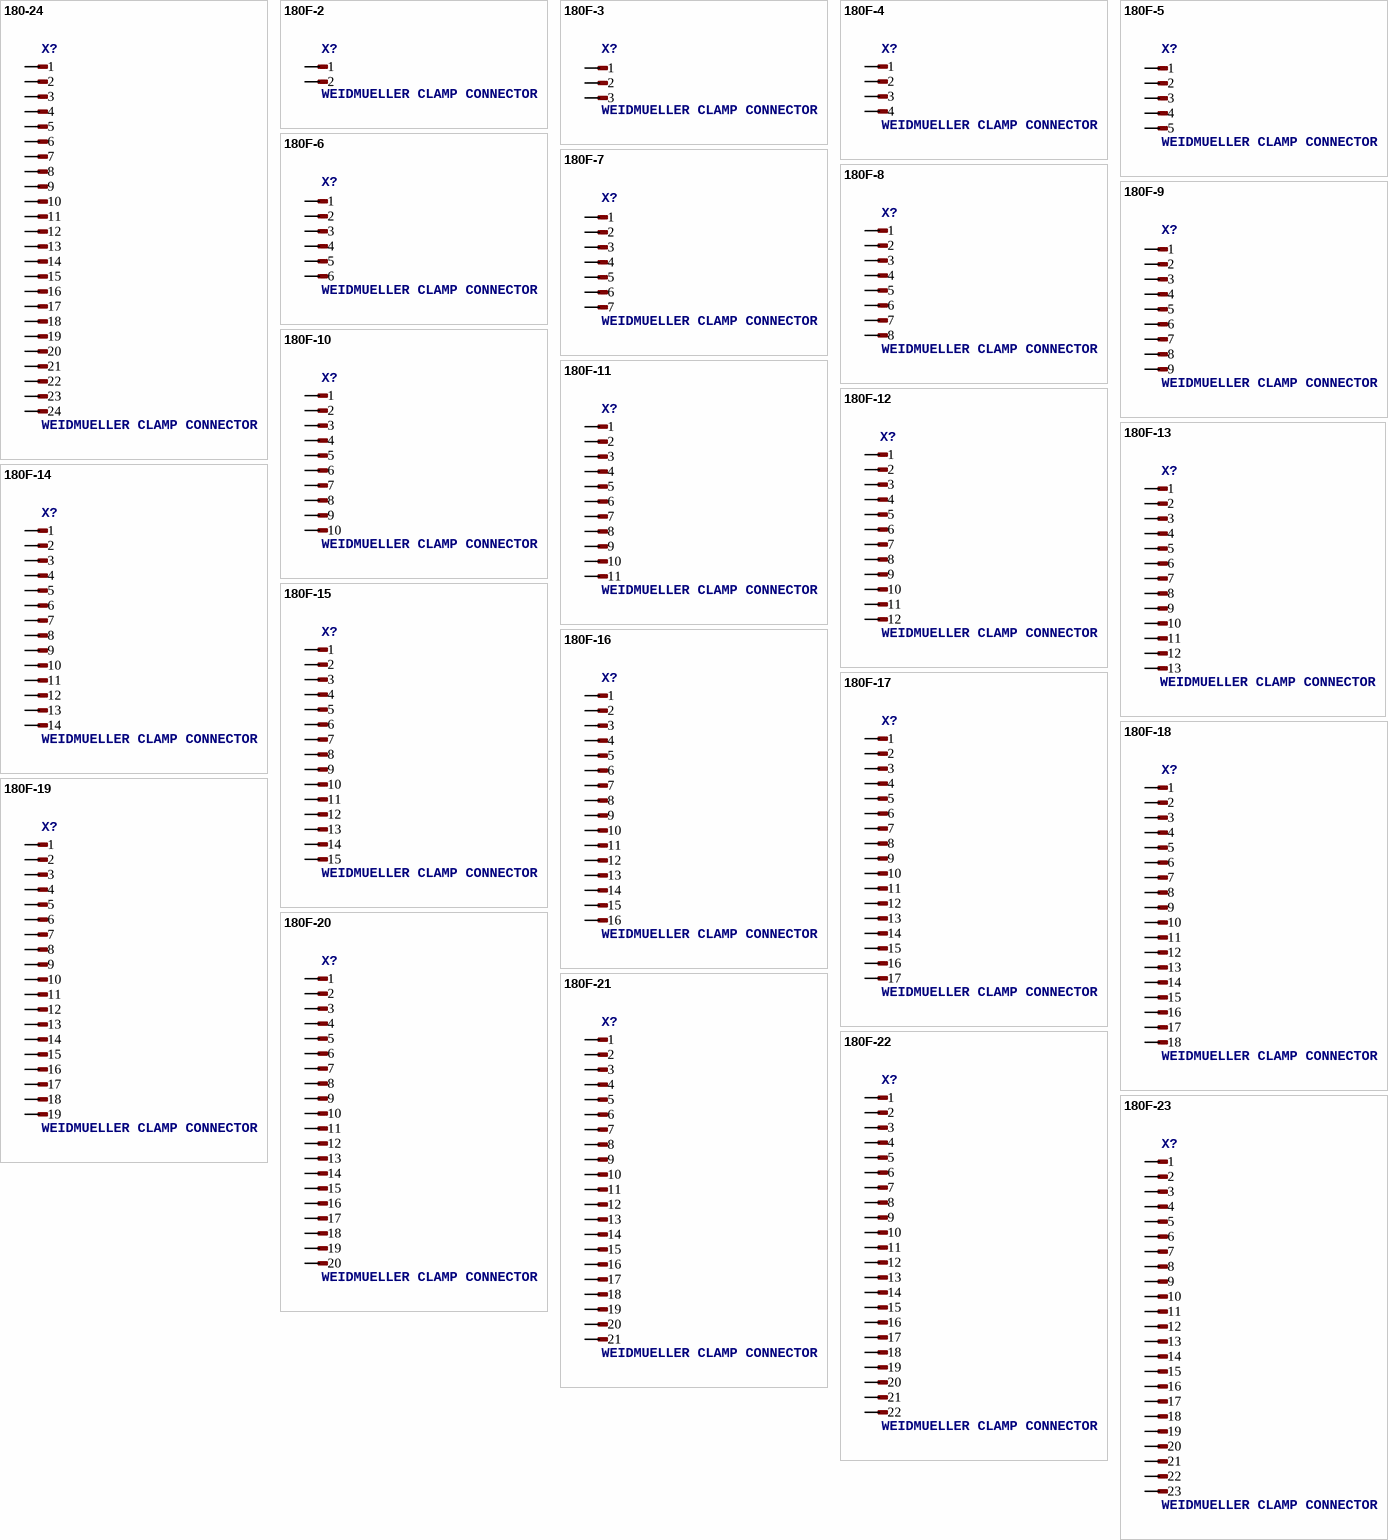
[diagram p6: symbols 180-24 to 180F-23]

## 180-24
designator X?, comment WEIDMUELLER CLAMP CONNECTOR
OC_FARNELL: unknown; OC_NEWARK: unknown
footprint 180-24
pins: 1, 2, 3, 4, 5, 6, 7, 8, 9, 10, 11, 12, 13, 14, 15, 16, 17, 18, 19, 20, 21, 22, 23, 24

## 180F-2
designator X?, comment WEIDMUELLER CLAMP CONNECTOR
OC_FARNELL: unknown; OC_NEWARK: unknown
footprint 180F-2
pins: 1, 2

## 180F-3
designator X?, comment WEIDMUELLER CLAMP CONNECTOR
OC_FARNELL: unknown; OC_NEWARK: unknown
footprint 180F-3
pins: 1, 2, 3

## 180F-4
designator X?, comment WEIDMUELLER CLAMP CONNECTOR
OC_FARNELL: unknown; OC_NEWARK: unknown
footprint 180F-4
pins: 1, 2, 3, 4

## 180F-5
designator X?, comment WEIDMUELLER CLAMP CONNECTOR
OC_FARNELL: unknown; OC_NEWARK: unknown
footprint 180F-5
pins: 1, 2, 3, 4, 5

## 180F-6
designator X?, comment WEIDMUELLER CLAMP CONNECTOR
OC_FARNELL: unknown; OC_NEWARK: unknown
footprint 180F-6
pins: 1, 2, 3, 4, 5, 6

## 180F-7
designator X?, comment WEIDMUELLER CLAMP CONNECTOR
OC_FARNELL: unknown; OC_NEWARK: unknown
footprint 180F-7
pins: 1, 2, 3, 4, 5, 6, 7

## 180F-8
designator X?, comment WEIDMUELLER CLAMP CONNECTOR
OC_FARNELL: unknown; OC_NEWARK: unknown
footprint 180F-8
pins: 1, 2, 3, 4, 5, 6, 7, 8

## 180F-9
designator X?, comment WEIDMUELLER CLAMP CONNECTOR
OC_FARNELL: unknown; OC_NEWARK: unknown
footprint 180F-9
pins: 1, 2, 3, 4, 5, 6, 7, 8, 9

## 180F-10
designator X?, comment WEIDMUELLER CLAMP CONNECTOR
OC_FARNELL: unknown; OC_NEWARK: unknown
footprint 180F-10
pins: 1, 2, 3, 4, 5, 6, 7, 8, 9, 10

## 180F-11
designator X?, comment WEIDMUELLER CLAMP CONNECTOR
OC_FARNELL: unknown; OC_NEWARK: unknown
footprint 180F-11
pins: 1, 2, 3, 4, 5, 6, 7, 8, 9, 10, 11

## 180F-12
designator X?, comment WEIDMUELLER CLAMP CONNECTOR
OC_FARNELL: unknown; OC_NEWARK: unknown
footprint 180F-12
pins: 1, 2, 3, 4, 5, 6, 7, 8, 9, 10, 11, 12

## 180F-13
designator X?, comment WEIDMUELLER CLAMP CONNECTOR
OC_FARNELL: unknown; OC_NEWARK: unknown
footprint 180F-13
pins: 1, 2, 3, 4, 5, 6, 7, 8, 9, 10, 11, 12, 13

## 180F-14
designator X?, comment WEIDMUELLER CLAMP CONNECTOR
OC_FARNELL: unknown; OC_NEWARK: unknown
footprint 180F-14
pins: 1, 2, 3, 4, 5, 6, 7, 8, 9, 10, 11, 12, 13, 14

## 180F-15
designator X?, comment WEIDMUELLER CLAMP CONNECTOR
OC_FARNELL: unknown; OC_NEWARK: unknown
footprint 180F-15
pins: 1, 2, 3, 4, 5, 6, 7, 8, 9, 10, 11, 12, 13, 14, 15

## 180F-16
designator X?, comment WEIDMUELLER CLAMP CONNECTOR
OC_FARNELL: unknown; OC_NEWARK: unknown
footprint 180F-16
pins: 1, 2, 3, 4, 5, 6, 7, 8, 9, 10, 11, 12, 13, 14, 15, 16

## 180F-17
designator X?, comment WEIDMUELLER CLAMP CONNECTOR
OC_FARNELL: unknown; OC_NEWARK: unknown
footprint 180F-17
pins: 1, 2, 3, 4, 5, 6, 7, 8, 9, 10, 11, 12, 13, 14, 15, 16, 17

## 180F-18
designator X?, comment WEIDMUELLER CLAMP CONNECTOR
OC_FARNELL: unknown; OC_NEWARK: unknown
footprint 180F-18
pins: 1, 2, 3, 4, 5, 6, 7, 8, 9, 10, 11, 12, 13, 14, 15, 16, 17, 18

## 180F-19
designator X?, comment WEIDMUELLER CLAMP CONNECTOR
OC_FARNELL: unknown; OC_NEWARK: unknown
footprint 180F-19
pins: 1, 2, 3, 4, 5, 6, 7, 8, 9, 10, 11, 12, 13, 14, 15, 16, 17, 18, 19

## 180F-20
designator X?, comment WEIDMUELLER CLAMP CONNECTOR
OC_FARNELL: unknown; OC_NEWARK: unknown
footprint 180F-20
pins: 1, 2, 3, 4, 5, 6, 7, 8, 9, 10, 11, 12, 13, 14, 15, 16, 17, 18, 19, 20

## 180F-21
designator X?, comment WEIDMUELLER CLAMP CONNECTOR
OC_FARNELL: unknown; OC_NEWARK: unknown
footprint 180F-21
pins: 1, 2, 3, 4, 5, 6, 7, 8, 9, 10, 11, 12, 13, 14, 15, 16, 17, 18, 19, 20, 21

## 180F-22
designator X?, comment WEIDMUELLER CLAMP CONNECTOR
OC_FARNELL: unknown; OC_NEWARK: unknown
footprint 180F-22
pins: 1, 2, 3, 4, 5, 6, 7, 8, 9, 10, 11, 12, 13, 14, 15, 16, 17, 18, 19, 20, 21, 22

## 180F-23
designator X?, comment WEIDMUELLER CLAMP CONNECTOR
OC_FARNELL: unknown; OC_NEWARK: unknown
footprint 180F-23
pins: 1, 2, 3, 4, 5, 6, 7, 8, 9, 10, 11, 12, 13, 14, 15, 16, 17, 18, 19, 20, 21, 22, 23

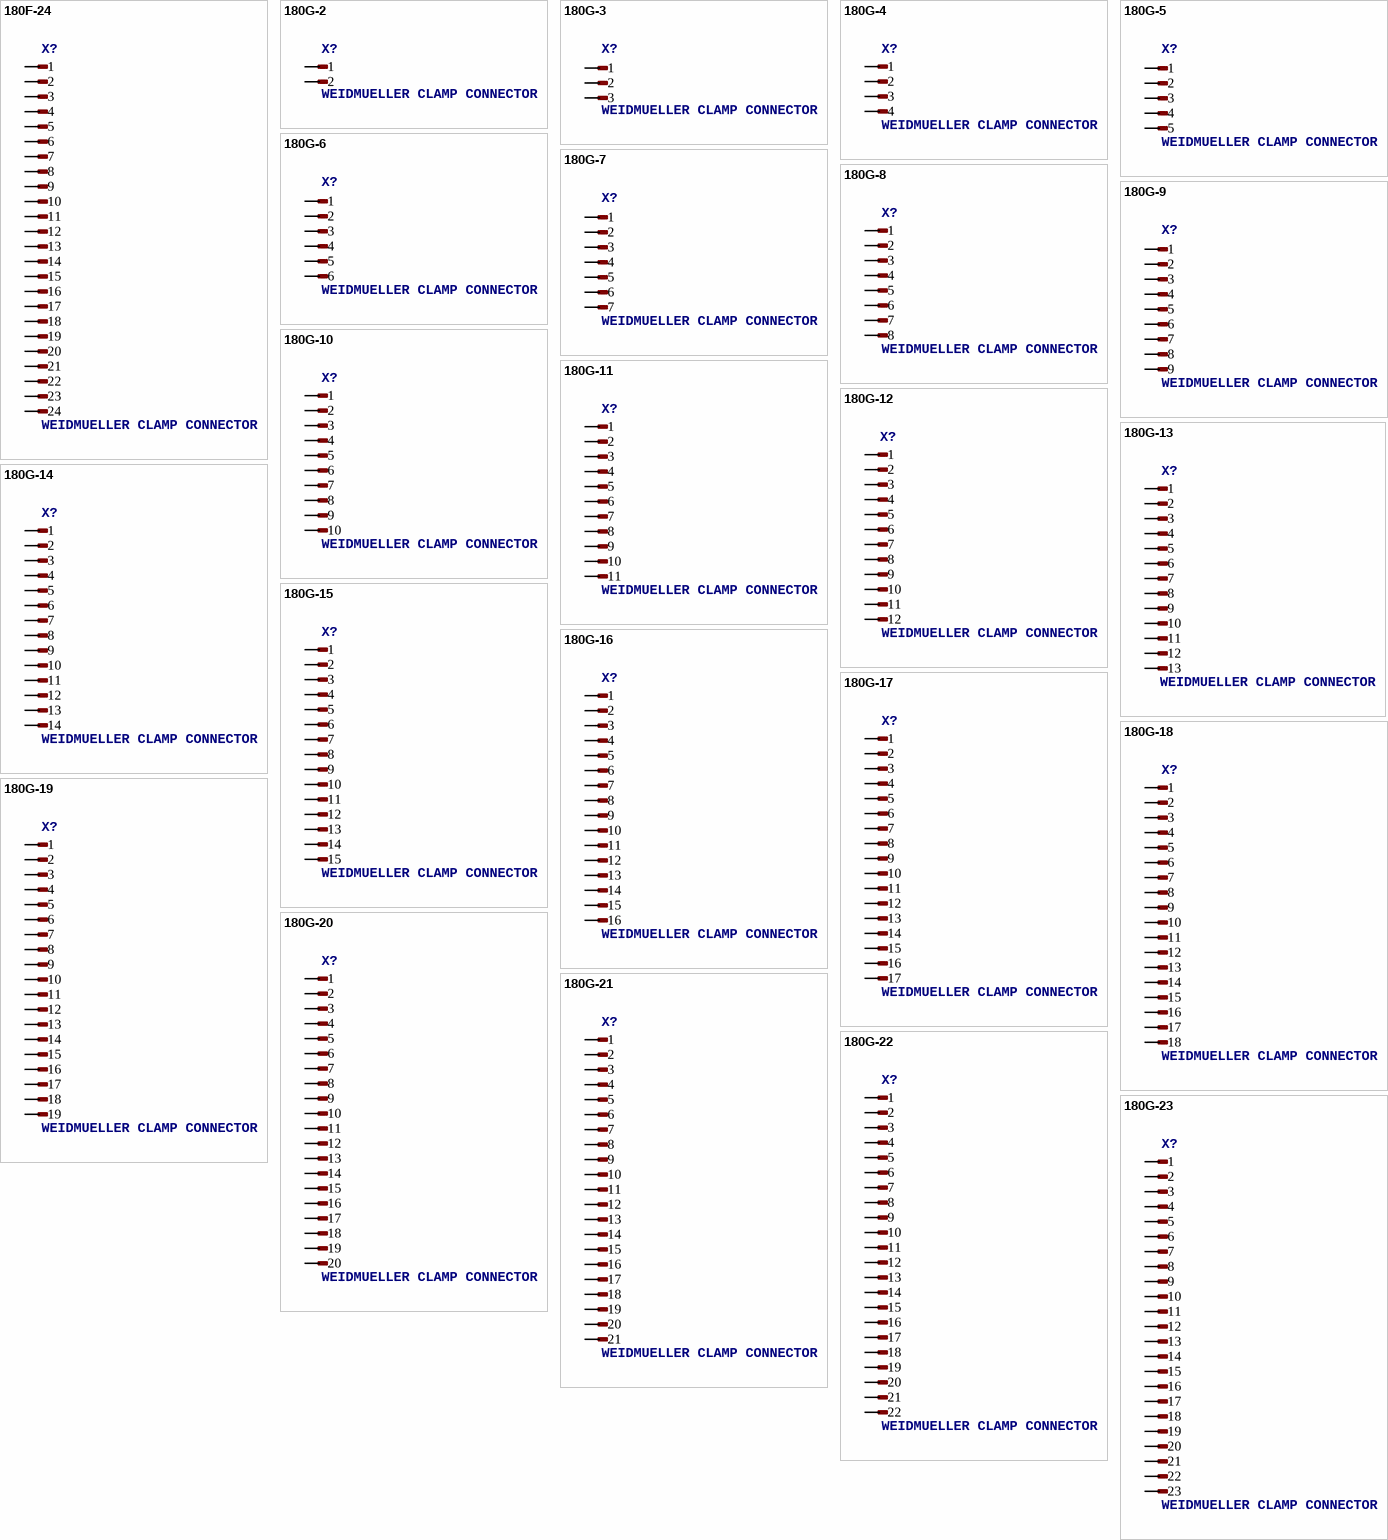
[diagram p7: symbols 180F-24 to 180G-23]

## 180F-24
designator X?, comment WEIDMUELLER CLAMP CONNECTOR
OC_FARNELL: unknown; OC_NEWARK: unknown
footprint 180F-24
pins: 1, 2, 3, 4, 5, 6, 7, 8, 9, 10, 11, 12, 13, 14, 15, 16, 17, 18, 19, 20, 21, 22, 23, 24

## 180G-2
designator X?, comment WEIDMUELLER CLAMP CONNECTOR
OC_FARNELL: unknown; OC_NEWARK: unknown
footprint 180G-2
pins: 1, 2

## 180G-3
designator X?, comment WEIDMUELLER CLAMP CONNECTOR
OC_FARNELL: unknown; OC_NEWARK: unknown
footprint 180G-3
pins: 1, 2, 3

## 180G-4
designator X?, comment WEIDMUELLER CLAMP CONNECTOR
OC_FARNELL: unknown; OC_NEWARK: unknown
footprint 180G-4
pins: 1, 2, 3, 4

## 180G-5
designator X?, comment WEIDMUELLER CLAMP CONNECTOR
OC_FARNELL: unknown; OC_NEWARK: unknown
footprint 180G-5
pins: 1, 2, 3, 4, 5

## 180G-6
designator X?, comment WEIDMUELLER CLAMP CONNECTOR
OC_FARNELL: unknown; OC_NEWARK: unknown
footprint 180G-6
pins: 1, 2, 3, 4, 5, 6

## 180G-7
designator X?, comment WEIDMUELLER CLAMP CONNECTOR
OC_FARNELL: unknown; OC_NEWARK: unknown
footprint 180G-7
pins: 1, 2, 3, 4, 5, 6, 7

## 180G-8
designator X?, comment WEIDMUELLER CLAMP CONNECTOR
OC_FARNELL: unknown; OC_NEWARK: unknown
footprint 180G-8
pins: 1, 2, 3, 4, 5, 6, 7, 8

## 180G-9
designator X?, comment WEIDMUELLER CLAMP CONNECTOR
OC_FARNELL: unknown; OC_NEWARK: unknown
footprint 180G-9
pins: 1, 2, 3, 4, 5, 6, 7, 8, 9

## 180G-10
designator X?, comment WEIDMUELLER CLAMP CONNECTOR
OC_FARNELL: unknown; OC_NEWARK: unknown
footprint 180G-10
pins: 1, 2, 3, 4, 5, 6, 7, 8, 9, 10

## 180G-11
designator X?, comment WEIDMUELLER CLAMP CONNECTOR
OC_FARNELL: unknown; OC_NEWARK: unknown
footprint 180G-11
pins: 1, 2, 3, 4, 5, 6, 7, 8, 9, 10, 11

## 180G-12
designator X?, comment WEIDMUELLER CLAMP CONNECTOR
OC_FARNELL: unknown; OC_NEWARK: unknown
footprint 180G-12
pins: 1, 2, 3, 4, 5, 6, 7, 8, 9, 10, 11, 12

## 180G-13
designator X?, comment WEIDMUELLER CLAMP CONNECTOR
OC_FARNELL: unknown; OC_NEWARK: unknown
footprint 180G-13
pins: 1, 2, 3, 4, 5, 6, 7, 8, 9, 10, 11, 12, 13

## 180G-14
designator X?, comment WEIDMUELLER CLAMP CONNECTOR
OC_FARNELL: unknown; OC_NEWARK: unknown
footprint 180G-14
pins: 1, 2, 3, 4, 5, 6, 7, 8, 9, 10, 11, 12, 13, 14

## 180G-15
designator X?, comment WEIDMUELLER CLAMP CONNECTOR
OC_FARNELL: unknown; OC_NEWARK: unknown
footprint 180G-15
pins: 1, 2, 3, 4, 5, 6, 7, 8, 9, 10, 11, 12, 13, 14, 15

## 180G-16
designator X?, comment WEIDMUELLER CLAMP CONNECTOR
OC_FARNELL: unknown; OC_NEWARK: unknown
footprint 180G-16
pins: 1, 2, 3, 4, 5, 6, 7, 8, 9, 10, 11, 12, 13, 14, 15, 16

## 180G-17
designator X?, comment WEIDMUELLER CLAMP CONNECTOR
OC_FARNELL: unknown; OC_NEWARK: unknown
footprint 180G-17
pins: 1, 2, 3, 4, 5, 6, 7, 8, 9, 10, 11, 12, 13, 14, 15, 16, 17

## 180G-18
designator X?, comment WEIDMUELLER CLAMP CONNECTOR
OC_FARNELL: unknown; OC_NEWARK: unknown
footprint 180G-18
pins: 1, 2, 3, 4, 5, 6, 7, 8, 9, 10, 11, 12, 13, 14, 15, 16, 17, 18

## 180G-19
designator X?, comment WEIDMUELLER CLAMP CONNECTOR
OC_FARNELL: unknown; OC_NEWARK: unknown
footprint 180G-19
pins: 1, 2, 3, 4, 5, 6, 7, 8, 9, 10, 11, 12, 13, 14, 15, 16, 17, 18, 19

## 180G-20
designator X?, comment WEIDMUELLER CLAMP CONNECTOR
OC_FARNELL: unknown; OC_NEWARK: unknown
footprint 180G-20
pins: 1, 2, 3, 4, 5, 6, 7, 8, 9, 10, 11, 12, 13, 14, 15, 16, 17, 18, 19, 20

## 180G-21
designator X?, comment WEIDMUELLER CLAMP CONNECTOR
OC_FARNELL: unknown; OC_NEWARK: unknown
footprint 180G-21
pins: 1, 2, 3, 4, 5, 6, 7, 8, 9, 10, 11, 12, 13, 14, 15, 16, 17, 18, 19, 20, 21

## 180G-22
designator X?, comment WEIDMUELLER CLAMP CONNECTOR
OC_FARNELL: unknown; OC_NEWARK: unknown
footprint 180G-22
pins: 1, 2, 3, 4, 5, 6, 7, 8, 9, 10, 11, 12, 13, 14, 15, 16, 17, 18, 19, 20, 21, 22

## 180G-23
designator X?, comment WEIDMUELLER CLAMP CONNECTOR
OC_FARNELL: unknown; OC_NEWARK: unknown
footprint 180G-23
pins: 1, 2, 3, 4, 5, 6, 7, 8, 9, 10, 11, 12, 13, 14, 15, 16, 17, 18, 19, 20, 21, 22, 23

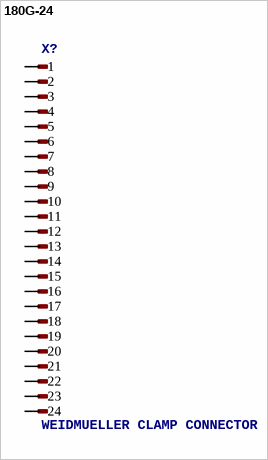
[diagram p8: symbol 180G-24]

## 180G-24
designator X?, comment WEIDMUELLER CLAMP CONNECTOR
OC_FARNELL: unknown; OC_NEWARK: unknown
footprint 180G-24
pins: 1, 2, 3, 4, 5, 6, 7, 8, 9, 10, 11, 12, 13, 14, 15, 16, 17, 18, 19, 20, 21, 22, 23, 24